# Altium schematic symbol library LS240D12.SchLib: 1 symbol
Pins are listed as number, name and electrical type; pins without a type are passive.

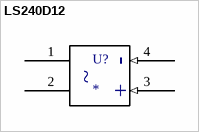
[diagram p0: symbol LS240D12]

## LS240D12
designator U?
Package Quantity: 20; ComponentLink1Description: Digikey; ComponentLink1URL: https://www.digikey.com/product-detail/en/sensata-crydom/LS240D8/CC1547-ND/750313; ComponentLink2Description: Mouser; ComponentLink2URL: https://www.mouser.com/ProductDetail/Crydom/LS240D8?qs=sGAEpiMZZMsUriz2CNI3E8GqrC4g63wzrRHQIpywt24%3D
footprint LS240D12
pins: 1 (power), 2 (power), 3 (in), 4 (in)
text: -; ~; +